# Altium schematic symbol library 2021-04-22_13-53-57.SchLib: 3 symbols
Pins are listed as number, name and electrical type; pins without a type are passive.

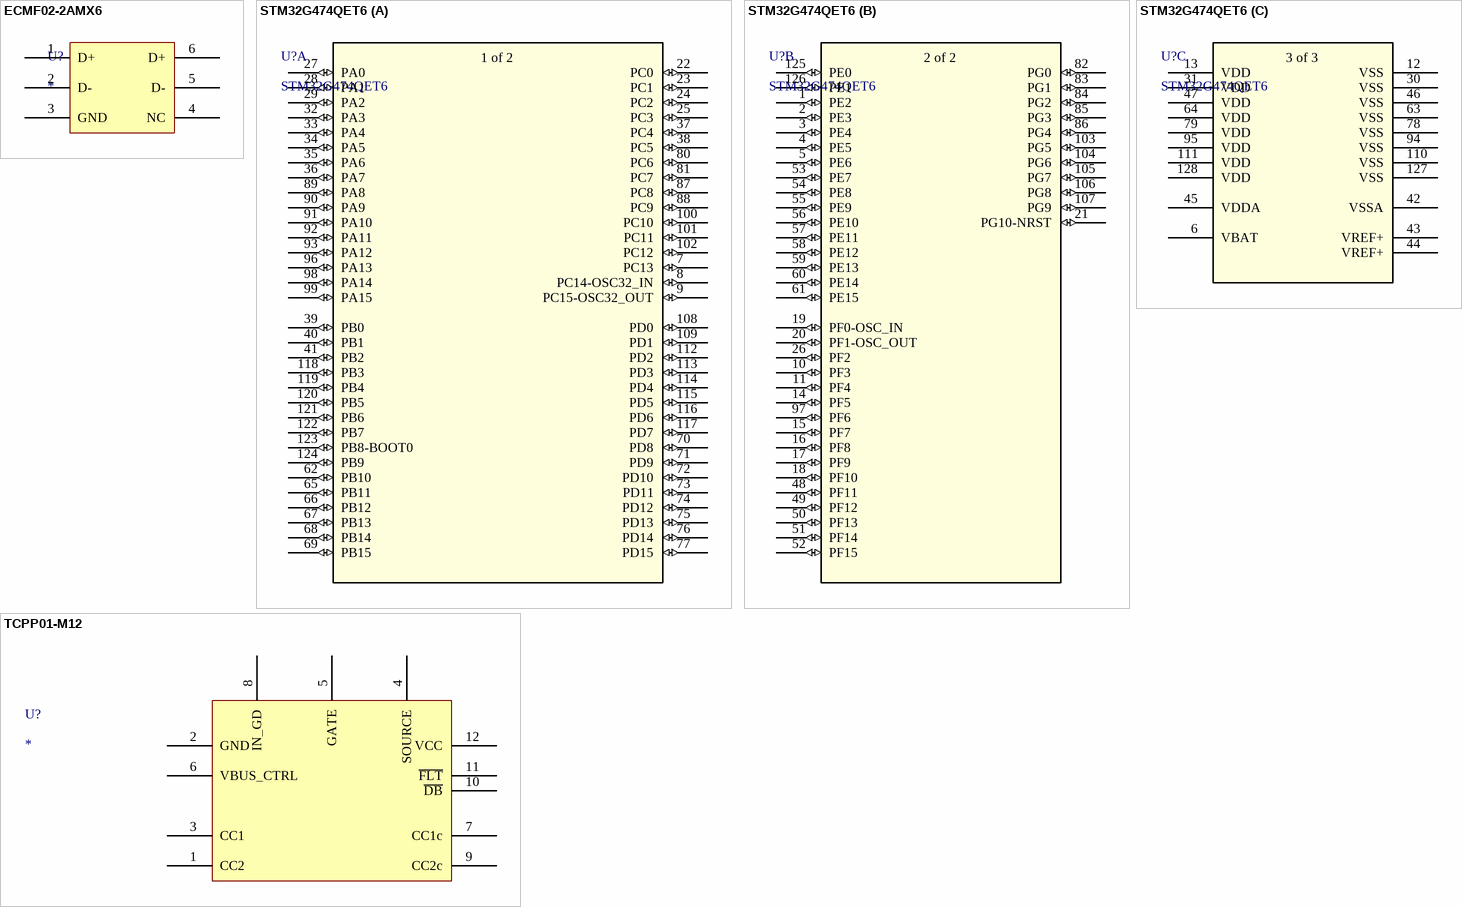
[diagram p0: symbols ECMF02-2AMX6 to TCPP01-M12]

## ECMF02-2AMX6
designator U?
pins: 1 D+, 2 D-, 3 GND, 4 NC, 5 D-, 6 D+

## STM32G474QET6
designator U?
No Description Available; Vendor: STMicroelectronics; Built_By: EMA_UL_Team; SourceLibrary: Updates_to_database_2020-10-19; Manufacturer_Part_Number: STM32G474QET6; Copyright: Copyright (C) 2018 Accelerated Designs. All rights reserved; RefDes: RefDes; Type: DEV
footprint LPQFP-128
part A pins: 7 PC13 (io), 8 PC14-OSC32_IN (io), 9 PC15-OSC32_OUT (io), 22 PC0 (io), 23 PC1 (io), 24 PC2 (io), 25 PC3 (io), 27 PA0 (io), 28 PA1 (io), 29 PA2 (io), 32 PA3 (io), 33 PA4 (io), 34 PA5 (io), 35 PA6 (io), 36 PA7 (io), 37 PC4 (io), 38 PC5 (io), 39 PB0 (io), 40 PB1 (io), 41 PB2 (io), 62 PB10 (io), 65 PB11 (io), 66 PB12 (io), 67 PB13 (io), 68 PB14 (io), 69 PB15 (io), 70 PD8 (io), 71 PD9 (io), 72 PD10 (io), 73 PD11 (io), 74 PD12 (io), 75 PD13 (io), 76 PD14 (io), 77 PD15 (io), 80 PC6 (io), 81 PC7 (io), 87 PC8 (io), 88 PC9 (io), 89 PA8 (io), 90 PA9 (io), 91 PA10 (io), 92 PA11 (io), 93 PA12 (io), 96 PA13 (io), 98 PA14 (io), 99 PA15 (io), 100 PC10 (io), 101 PC11 (io), 102 PC12 (io), 108 PD0 (io), 109 PD1 (io), 112 PD2 (io), 113 PD3 (io), 114 PD4 (io), 115 PD5 (io), 116 PD6 (io), 117 PD7 (io), 118 PB3 (io), 119 PB4 (io), 120 PB5 (io), 121 PB6 (io), 122 PB7 (io), 123 PB8-BOOT0 (io), 124 PB9 (io)
part B pins: 1 PE2 (io), 2 PE3 (io), 3 PE4 (io), 4 PE5 (io), 5 PE6 (io), 10 PF3 (io), 11 PF4 (io), 14 PF5 (io), 15 PF7 (io), 16 PF8 (io), 17 PF9 (io), 18 PF10 (io), 19 PF0-OSC_IN (io), 20 PF1-OSC_OUT (io), 21 PG10-NRST (io), 26 PF2 (io), 48 PF11 (io), 49 PF12 (io), 50 PF13 (io), 51 PF14 (io), 52 PF15 (io), 53 PE7 (io), 54 PE8 (io), 55 PE9 (io), 56 PE10 (io), 57 PE11 (io), 58 PE12 (io), 59 PE13 (io), 60 PE14 (io), 61 PE15 (io), 82 PG0 (io), 83 PG1 (io), 84 PG2 (io), 85 PG3 (io), 86 PG4 (io), 97 PF6 (io), 103 PG5 (io), 104 PG6 (io), 105 PG7 (io), 106 PG8 (io), 107 PG9 (io), 125 PE0 (io), 126 PE1 (io)
part C pins: 6 VBAT (power), 12 VSS (power), 13 VDD (power), 30 VSS (power), 31 VDD (power), 42 VSSA (power), 43 VREF+ (power), 44 VREF+ (power), 45 VDDA (power), 46 VSS (power), 47 VDD (power), 63 VSS (power), 64 VDD (power), 78 VSS (power), 79 VDD (power), 94 VSS (power), 95 VDD (power), 110 VSS (power), 111 VDD (power), 127 VSS (power), 128 VDD (power)
part A text: 1 of 2
part B text: 2 of 2
part C text: 3 of 3

## TCPP01-M12
designator U?
pins: 1 CC2, 2 GND, 3 CC1, 4 SOURCE, 5 GATE, 6 VBUS_CTRL, 7 CC1c, 8 IN_GD, 9 CC2c, 10 ~{DB}, 11 ~{FLT}, 12 VCC